# EAGLE library part SSM6N68NU,LF (library SSM6N68NU_LF)
MOSFET LowON Res MOSFET ID=4A VDSS=30V Source: Datasheet <http://toshiba.semicon-storage.com/info/docget.jsp?did=60465&prodName=SSM6N68NU>
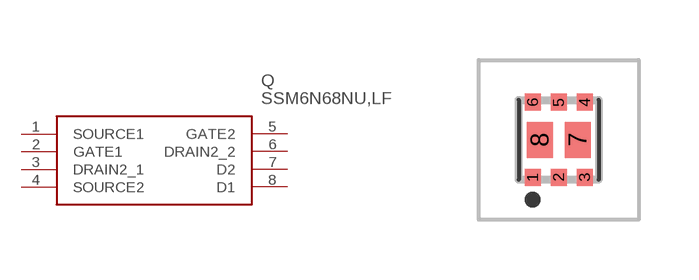
[diagram p0: symbol with the pads of SSM6N68NULF; footprint SSM6N68NULF]

Designator prefix Q

## SSM6N68NU,LF (Description: MOSFET LowON Res MOSFET ID=4A VDSS=30V; Height: 0.8mm; Manufacturer_Name: Toshiba; Manufacturer_Part_Number: SSM6N68NU,LF)  [SSM6N68NULF]
1  SOURCE1
2  GATE1
3  DRAIN2_1
4  SOURCE2
5  GATE2
6  DRAIN2_2
7  D2
8  D1

## Footprint SSM6N68NULF (pad centres in mm)
UDFN6
smd 0.4 x 0.425: 1 -0.65,-0.938; 2 0,-0.938; 3 0.65,-0.938; 4 0.65,0.938; 5 0,0.938; 6 -0.65,0.938
smd 0.65 x 0.9: 7 0.475,0; 8 -0.475,0